# Altium schematic symbol library F2405S-1WR3.SchLib: 1 symbol
Pins are listed as number, name and electrical type; pins without a type are passive.

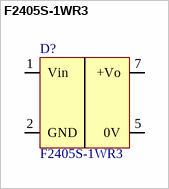
[diagram p0: symbol F2405S-1WR3]

## F2405S-1WR3
designator D?
footprint F2405S-1WR3 (Footprint not found)
pins: 1 Vin, 2 GND, 5 0V, 7 +Vo